# Altium footprint library NEC.PcbLib: 4 footprints
Each footprint in its own frame and in the unit in brackets; x right, y up, seen from the top. Pads: shape width x height; smd on the part's side, far side on the other; paste and mask are expansions set on the pad; w line width, h text height; cw(c..) or ccw(c..) is an arc to the next point about the centre after c.
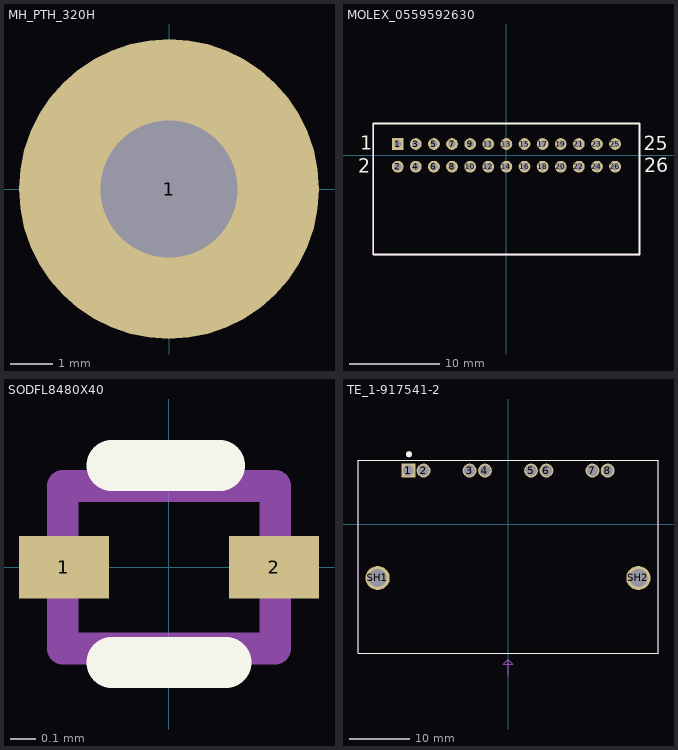
[diagram p0: the footprints below, top view; thin cyan lines are the x and y axes]

## MH_PTH_320H [mm]
pads (1):
  round 7 hole 3.2: 1(0,0)

## MOLEX_0559592630 [mm]
height 11.7
pads (26):
  rect 1.3x1.3 hole 0.8: 1(-12,1.25)
  round 1.3 hole 0.8: 2(-12,-1.25) 3(-10,1.25) 4(-10,-1.25) 5(-8,1.25) 6(-8,-1.25) 7(-6,1.25) 8(-6,-1.25) 9(-4,1.25) 10(-4,-1.25) 11(-2,1.25) 12(-2,-1.25) 13(0,1.25) 14(0,-1.25) 15(2,1.25) 16(2,-1.25) 17(4,1.25) 18(4,-1.25) 19(6,1.25) 20(6,-1.25) 21(8,1.25) 22(8,-1.25) 23(10,1.25) 24(10,-1.25) 25(12,1.25) 26(12,-1.25)
Top Overlay:
  lines w0.203: -14.7,-10.967 14.7,-10.967 14.7,3.533 -14.7,3.533 -14.7,-10.967
  text "26" at 15.215,-1.854 h1.52
  text "25" at 15.164,0.584 h1.52
  text "2" at -16.383,-1.905 h1.52
  text "1" at -16.129,0.635 h1.52
Mechanical 1:
  text "'.Designator'" at 0,0 h1.52
Mechanical 15:
  circle w0.127: c-12.065,1.27 r0.254
  lines w0.127: -14.7,-10.967 0,-10.967 14.7,-10.967 14.7,3.533 0,3.533 -14.7,3.533 -14.7,-10.967
3D body "559592630.stp": height 11.75, standoff -3.15, extent -14.707,-10.97 14.693,3.53

## SODFL8480X40 [mm]
height 0.4
pads (2):
  rect 0.36x0.25 smd mask+0.051: 1(-0.42,0) 2(0.42,0)
Top Overlay:
  lines w0.203: -0.229,-0.381 0.229,-0.381 ; -0.229,0.406 0.203,0.406
Mechanical 1:
  text "'.Designator'" at 0,0 h0.76
Mechanical 15:
  lines w0.127: -0.425,-0.325 -0.425,0 -0.425,0.325 0,0.325 0.425,0.325 0.425,0 0.425,-0.325 0,-0.325 -0.425,-0.325
3D body: height 0.4, standoff 0, extent -0.425,-0.325 0.425,0.325

## TE_1-917541-2 [mm]
height 13.9
pads (10):
  rect 2.308x2.308 hole 1.8 mask+0: 1(-16.51,8.89)
  round 2.308 hole 1.8 mask+0: 2(-13.97,8.89) 3(-6.35,8.89) 4(-3.81,8.89) 5(3.81,8.89) 6(6.35,8.89) 7(13.97,8.89) 8(16.51,8.89)
  round 4 hole 3: SH1(-21.59,-8.89) SH2(21.59,-8.89)
Top Overlay:
  circle w0.5: c-16.4,11.6 r0.25
  lines w0.203: -24.84,-21.37 24.84,-21.37 24.84,10.63 -24.84,10.63 -24.84,-21.37
Mechanical 1:
  lines w0.127: 0,-25 0,-22.4 ; 0,-22.4 0.8,-23.2 -0.8,-23.2 0,-22.4 ; 0,-22.4 0,-22.4
  text "ENTRY SIDE" at -3.2,-26.2 h1.52
  text "'.Designator'" at 0.4,-1.2 h1.52
Mechanical 15:
  circle w0.5: c-16.51,8.89 r0.25
  lines w0.127: -24.84,-21.37 -24.84,10.63 24.84,10.63 24.84,-21.37 -24.84,-21.37
3D body "c-1-917541-2-g-3d.stp": height 14.2, standoff -3.5, extent -24.84,-21.37 24.84,10.63